# Altium footprint library Switches.PcbLib: 5 footprints
Each footprint in its own frame and in the unit in brackets; x right, y up, seen from the top. Pads: shape width x height; smd on the part's side, far side on the other; paste and mask are expansions set on the pad; w line width, h text height; cw(c..) or ccw(c..) is an arc to the next point about the centre after c.
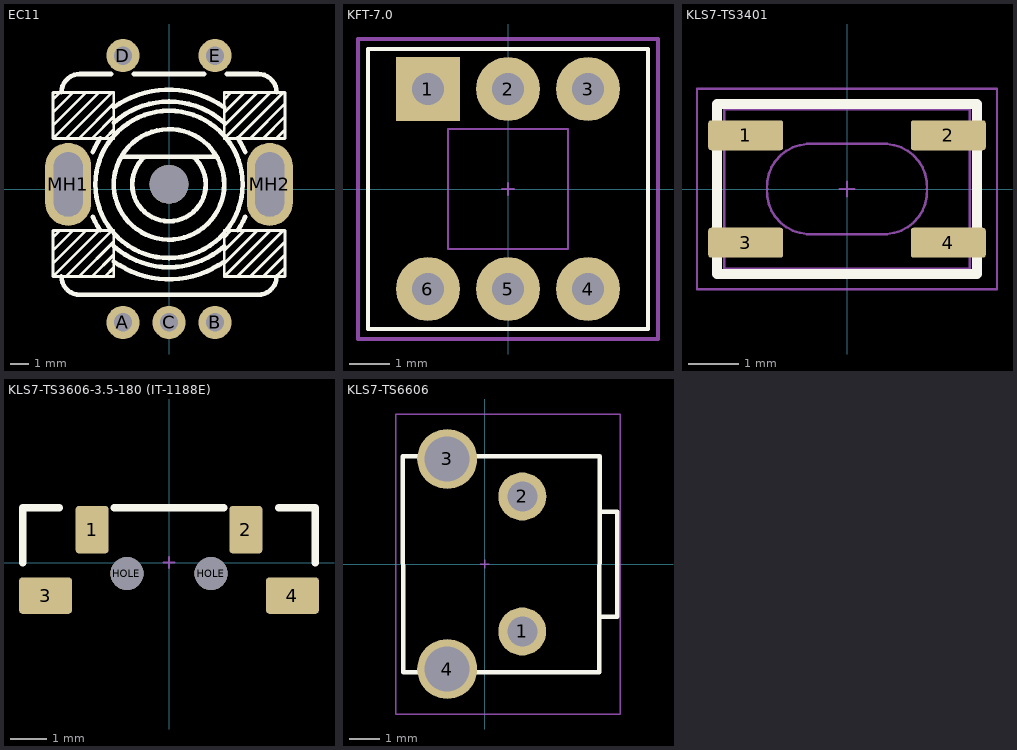
[diagram p0: the footprints below, top view; thin cyan lines are the x and y axes]

## EC11 [mm]
pads (8):
  round 1.8 hole 1 mask+0.05: A(-2.5,-7.25) B(2.5,-7.25) C(0,-7.25) D(-2.5,7.25) E(2.5,7.25)
  oval 2.5x4.5 hole 1.6 slot 3.5 at 90 deg mask+0.05: MH1(-5.475,0.25) MH2(5.475,0.25)
  round 2.1 hole 2.1 unplated mask+0.05: ""(0,0.25)
Top Overlay:
  circle w0.254: c0,0.25 r3
  lines w0.15: -6.3,-4.043 -4.507,-2.25 ; -6.3,-3.336 -5.214,-2.25 ; -6.3,-2.629 -5.921,-2.25 ; -6.3,3.457 -4.507,5.25 ; -6.3,4.164 -5.214,5.25 ; -6.3,4.871 -5.921,5.25 ; -5.593,-4.75 -3.093,-2.25 ; -5.593,2.75 -3.093,5.25 ; -4.886,-4.75 -3,-2.864 ; -4.886,2.75 -3,4.636 ; -4.179,-4.75 -3,-3.571 ; -4.179,2.75 -3,3.929 ; -3.8,-2.25 -6.3,-4.75 ; -3.8,5.25 -6.3,2.75 ; -3.471,-4.75 -3,-4.278 ; -3.471,2.75 -3,3.222 ; 3,-4.043 4.793,-2.25 ; 3,-3.336 4.086,-2.25 ; 3,-2.629 3.379,-2.25 ; 3,3.457 4.793,5.25 ; 3,4.164 4.086,5.25 ; 3,4.871 3.379,5.25 ; 3.707,-4.75 6.207,-2.25 ; 3.707,2.75 6.207,5.25 ; 4.414,-4.75 6.3,-2.864 ; 4.414,2.75 6.3,4.636 ; 5.121,-4.75 6.3,-3.571 ; 5.121,2.75 6.3,3.929 ; 5.5,-2.25 3,-4.75 ; 5.5,5.25 3,2.75 ; 5.829,-4.75 6.3,-4.278 ; 5.829,2.75 6.3,3.222 ; -6.3,-4.75 -3,-4.75 -3,-2.25 -6.3,-2.25 -6.3,-4.75 ; -6.3,2.75 -3,2.75 -3,5.25 -6.3,5.25 -6.3,2.75 ; 3,-4.75 6.3,-4.75 6.3,-2.25 3,-2.25 3,-4.75 ; 3,2.75 6.3,2.75 6.3,5.25 3,5.25 3,2.75
  lines w0.254: -5.849,-4.75 ccw(c-4.84,-4.74) -4.84,-5.749 4.843,-5.748 ccw(c4.843,-4.74) 5.851,-4.75 ; -5.849,5.25 cw(c-4.84,5.242) -4.84,6.251 -3.14,6.251 ; -4.143,-1.506 ccw(c0,0.25) -3.742,-2.25 ; -4.143,2.006 cw(c0,0.25) -3.742,2.75 ; -3.122,-2.25 cw(c0,0.25) -3.122,2.75 ; -3,-3.936 ccw(c0,0.25) 3,-3.936 ; -3,-3.104 ccw(c0,0.25) 3,-3.104 ; -3,-2.396 ccw(c0,0.25) 3,-2.396 ; -3,2.896 cw(c0,0.25) 3,2.896 ; -3,3.604 cw(c0,0.25) 3,3.604 ; -3,4.436 cw(c0,0.25) 3,4.436 ; -2.597,1.751 2.598,1.751 ; -1.9,6.251 1.9,6.251 ; -1.321,1.751 ccw(c0,0.25) 1.322,1.751 ; 3.123,-2.25 ccw(c0,0.25) 3.123,2.75 ; 3.143,6.25 4.843,6.25 cw(c4.843,5.242) 5.851,5.25 ; 3.742,-2.25 ccw(c0,0.25) 4.143,-1.506 ; 3.742,2.75 cw(c0,0.25) 4.143,2.006
Top Component Center:
  lines w0.05: -0.15,0 0.15,0 ; 0,-0.15 0,0.15
3D body "EC11_Rotary_Encoder_Switched.step": height 26.65, standoff -3.43, extent -6.545,-7.68 6.546,7.58

## KFT-7.0 [mm] "Push Switch Series. 7x7"
pads (6):
  rect 1.6x1.6 hole 0.8 mask+0.05: 1(-2,2.5)
  round 1.6 hole 0.8 mask+0.05: 2(0,2.5) 3(2,2.5) 4(2,-2.5) 5(0,-2.5) 6(-2,-2.5)
Top Overlay:
  lines w0.1: -3.5,-3.5 -3.5,3.5 3.5,3.5 3.5,-3.5 -3.5,-3.5
Top Assembly:
  lines w0.05: -3.5,-3.5 -3.5,3.5 3.5,3.5 3.5,-3.5 -3.5,-3.5 ; -1.5,-1.5 -1.5,1.5 1.5,1.5 1.5,-1.5 -1.5,-1.5
Top Courtyard:
  lines w0.1: -3.75,-3.75 3.75,-3.75 3.75,3.75 -3.75,3.75 -3.75,-3.75
Top Component Center:
  lines w0.05: -0.15,0 0.15,0 ; 0,-0.15 0,0.15
3D body "ON_ON_7x7mm_6pin.step": height 12.4, standoff -3.5, extent -3.5,-3.5 3.5,3.5

## KLS7-TS3401 [mm]
pads (4):
  rrect20% 1.5x0.6 smd mask+0.05: 1(-2.025,1.075) 2(2.025,1.075) 3(-2.025,-1.075) 4(2.025,-1.075)
Top Overlay:
  lines w0.2: -2.6,-1.7 2.6,-1.7 2.6,1.7 -2.6,1.7 -2.6,-1.7
Top Assembly:
  lines w0.05: -2.45,-1.6 2.45,-1.6 2.45,1.6 -2.45,1.6 -2.45,-1.6 ; -1.6,0 cw(c-0.75,0.05) -0.8,0.9 0.8,0.9 cw(c0.75,0.05) 1.6,0 cw(c0.75,-0.05) 0.8,-0.9 -0.8,-0.9 cw(c-0.75,-0.05) -1.6,0
Top Courtyard:
  lines w0.05: -3,-2 3,-2 3,2 -3,2 -3,-2
Top Component Center:
  lines w0.05: -0.15,0 0.15,0 ; 0,-0.15 0,0.15
3D body "SKRPACE010 v4.step": height 2.5, standoff -0.05, extent -2.446,-1.6 2.446,1.6

## KLS7-TS3606-3.5-180 (IT-1188E) [mm]
pads (6):
  rrect20% 0.9x1.3 smd mask+0.05: 1(-2.1,0.9) 2(2.1,0.9)
  rrect20% 1.45x1 smd mask+0.05: 3(-3.375,-0.9) 4(3.375,-0.9)
  round 0.9 hole 0.9 mask+0.05: HOLE(-1.15,-0.3) HOLE(1.15,-0.3)
Top Overlay:
  lines w0.2: -4,0 -4,1.5 -3,1.5 ; -1.5,1.5 1.5,1.5 ; 3,1.5 4,1.5 4,0
Top Component Center:
  lines w0.05: -0.15,0 0.15,0 ; 0,-0.15 0,0.15
3D body "IT-1188E.STEP": height 3.5, standoff -0.7, extent -3.9,-2.2 3.9,1.4

## KLS7-TS6606 [mm]
pads (4):
  round 1.6 hole 1 mask+0.05: 1(1.25,-2.25) 2(1.25,2.25)
  round 2 hole 1.5 mask+0.05: 3(-1.25,3.5) 4(-1.25,-3.5)
Top Overlay:
  lines w0.15: 3.825,-1.75 4.425,-1.75 4.425,1.75 3.825,1.75 ; -2.725,-3.6 -2.725,3.6 3.825,3.6 3.825,-3.6 -2.725,-3.6
Top Assembly:
  lines w0.05: 3.825,-1.75 4.425,-1.75 4.425,1.75 3.825,1.75 ; -2.725,-3.6 -2.725,3.6 3.825,3.6 3.825,-3.6 -2.725,-3.6
Top Courtyard:
  lines w0.05: -2.975,-5 4.525,-5 4.525,5 -2.975,5 -2.975,-5
Top Component Center:
  lines w0.05: -0.15,0 0.15,0 ; 0,-0.15 0,0.15
3D body "Tactile Switch SPST-NO Side Actuated Through Hole, Right Angle 1-1825027-1.stp": height 7.06, standoff -3.51, extent -2.751,-4.205 9.601,4.205